# Altium schematic symbol library MOSFET,N Ch,650V,66A.Schlib: 1 symbol
Pins are listed as number, name and electrical type; pins without a type are passive.

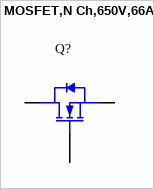
[diagram p0: symbol MOSFET,N Ch,650V,66A]

## MOSFET,N Ch,650V,66A
designator Q?
pins: 1 G, 2 D, 3 S